# Altium footprint library Switch.PcbLib: 25 footprints (part 2 of 2)
Each footprint in its own frame and in the unit in brackets; x right, y up, seen from the top. Pads: shape width x height; smd on the part's side, far side on the other; paste and mask are expansions set on the pad; w line width, h text height; cw(c..) or ccw(c..) is an arc to the next point about the centre after c.
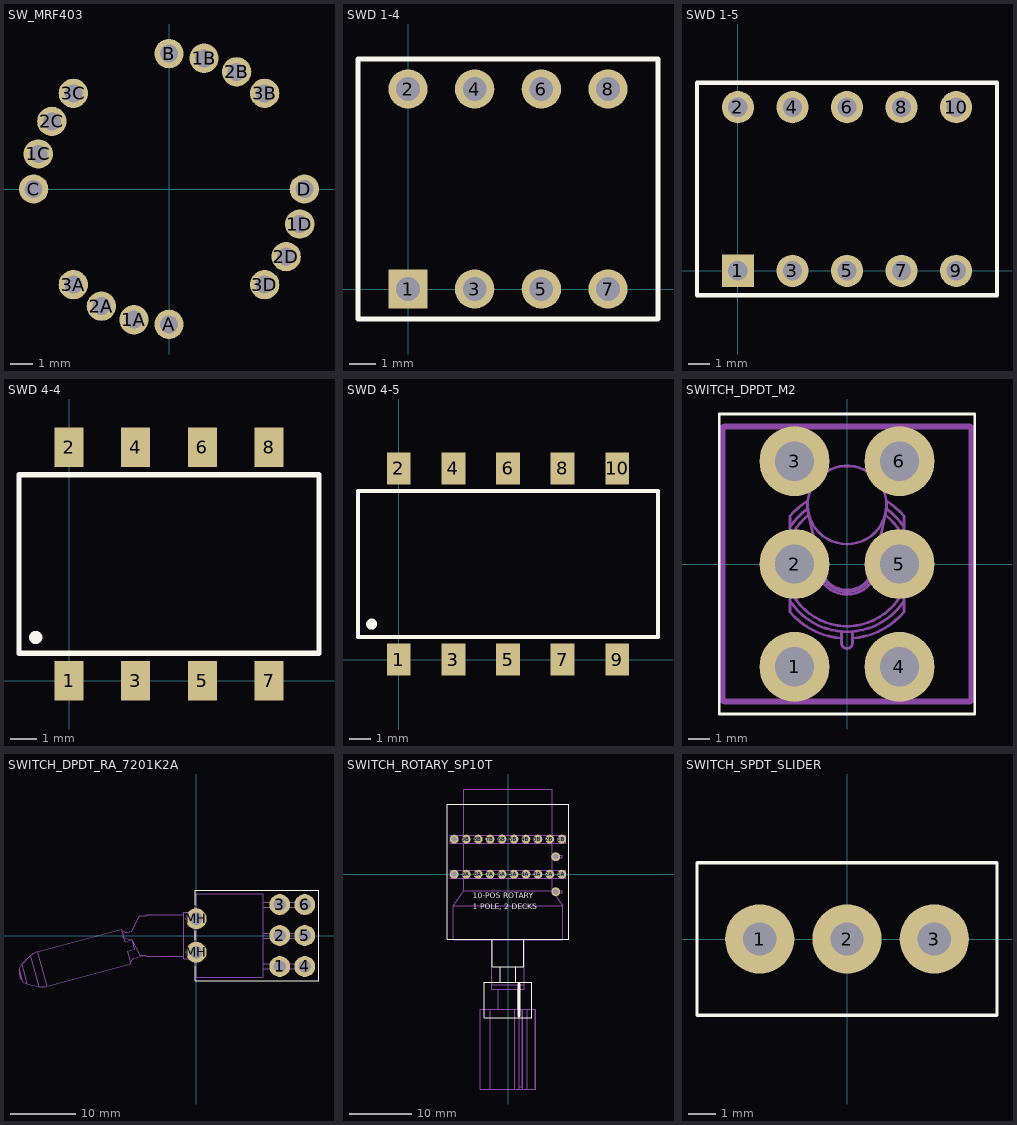
[diagram p1: the footprints below, top view; thin cyan lines are the x and y axes]

## SW_MRF403 [mm]
height 8.2
pads (16):
  round 1.3 hole 0.8: 1A(-1.553,-5.796) 1B(1.553,5.796) 1C(-5.796,1.553) 1D(5.796,-1.553) 2A(-3,-5.196) 2B(3,5.196) 2C(-5.196,3) 2D(5.196,-3) 3A(-4.243,-4.243) 3B(4.243,4.243) 3C(-4.243,4.243) 3D(4.243,-4.243) A(0,-6) B(0,6) C(-6,0) D(6,0)
3D body "MRF403.STEP": height 8.2, standoff -3.51, extent -9.896,-9.896 9.896,9.896

## SWD 1-4 [mm]
height 0.001
pads (8):
  rect 1.5x1.5 hole 0.9: 1(0,0)
  round 1.5 hole 0.9: 2(0,7.62) 3(2.54,0) 4(2.54,7.62) 5(5.08,0) 6(5.08,7.62) 7(7.62,0) 8(7.62,7.62)
Top Overlay:
  lines w0.2: -1.905,-1.14 9.525,-1.14 9.525,8.76 -1.905,8.76 -1.905,-1.14
3D body "SWD1-4.step": height 7, standoff -3.7, extent -1.77,-1.14 9.39,8.76

## SWD 1-5 [mm]
height 0.001
pads (10):
  rect 1.5x1.5 hole 0.9: 1(0,0)
  round 1.5 hole 0.9: 2(0,7.62) 3(2.54,0) 4(2.54,7.62) 5(5.08,0) 6(5.08,7.62) 7(7.62,0) 8(7.62,7.62) 9(10.16,0) 10(10.16,7.62)
Top Overlay:
  lines w0.2: -1.905,-1.14 12.065,-1.14 12.065,8.76 -1.905,8.76 -1.905,-1.14
3D body "SWD1-5.step": height 7, standoff -3.7, extent -1.778,-1.14 11.922,8.76

## SWD 4-4 [mm]
height 0.001
pads (8):
  rect 1.1x1.5 smd: 1(0,0) 2(0,8.9) 3(2.54,0) 4(2.54,8.9) 5(5.08,0) 6(5.08,8.9) 7(7.62,0) 8(7.62,8.9)
Top Overlay:
  circle w0.254: c-1.27,1.651 r0.127
  lines w0.2: -1.905,1.05 9.525,1.05 9.525,7.85 -1.905,7.85 -1.905,1.05
3D body "SWD4-4e.stp": height 4.4, standoff 0, extent -1.74,-0.455 9.36,9.345

## SWD 4-5 [mm]
height 0.001
pads (10):
  rect 1.1x1.5 smd: 1(0,0) 2(0,8.9) 3(2.54,0) 4(2.54,8.9) 5(5.08,0) 6(5.08,8.9) 7(7.62,0) 8(7.62,8.9) 9(10.16,0) 10(10.16,8.9)
Top Overlay:
  circle w0.254: c-1.27,1.651 r0.127
  lines w0.2: -1.905,1.05 -1.905,7.85 12.065,7.85 12.065,1.05 -1.905,1.05
3D body "SWD4-5e.stp": height 4.4, standoff 0, extent -1.74,-0.455 11.9,9.345

## SWITCH_DPDT_M2 [mm] "NKK M2 Series DPDT Switch with 03 pin option"
height 28.448
pads (6):
  round 3.2 hole 1.8: 1(-2.4,-4.7) 2(-2.4,0) 3(-2.4,4.7) 4(2.4,-4.7) 5(2.4,0) 6(2.4,4.7)
Top Overlay:
  lines w0.127: -5.842,-6.858 -5.842,6.858 5.842,6.858 5.842,-6.858 -5.842,-6.858
Mechanical 13:
  lines w0.127: -5.716,-6.313 -5.626,-6.223 ; -5.716,6.313 -5.626,6.223 ; -2.604,-1.681 ccw(c0,0) 2.604,-1.681 ; -2.604,-1.147 ccw(c0,0) 2.604,-1.147 ; -2.604,1.147 cw(c0,0) -1.752,2.241 ; -2.604,1.681 cw(c0,0) -1.801,2.522 ; -1.795,2.892 ccw(c0,0) -2.604,2.192 -2.604,-2.192 ccw(c0,0) -0.254,-3.394 ; -1.766,2.302 -1.191,-0.254 ccw(c0,0.033) 1.191,-0.254 1.766,2.302 ; -1.338,0.401 ccw(c0,0) 1.338,0.401 ; -1.267,0.085 ccw(c0,0) 1.267,0.085 ; -0.254,-3.088 -0.254,-3.607 ccw(c0,-3.607) 0.254,-3.607 0.254,-3.088 ; 0.254,-3.394 ccw(c0,0) 2.604,-2.192 2.604,2.192 ccw(c0,0) 1.795,2.892 ; 1.752,2.241 cw(c0,0) 2.604,1.147 ; 1.801,2.522 cw(c0,0) 2.604,1.681 ; 5.716,-6.313 5.626,-6.223 ; 5.716,6.313 5.626,6.223 ; -5.626,-6.223 5.626,-6.223 ; -5.626,-6.223 -5.626,6.223 ; -5.626,6.223 5.626,6.223 ; 5.626,-6.223 5.626,6.223 ; -5.753,-6.223 ccw(c-5.626,-6.223) -5.626,-6.35 5.626,-6.35 ccw(c5.626,-6.223) 5.753,-6.223 5.753,6.223 ccw(c5.626,6.223) 5.626,6.35 -5.626,6.35 ccw(c-5.626,6.223) -5.753,6.223 -5.753,-6.223 ; -1.808,2.679 cw(c0,2.679) 1.808,2.679 cw(c0,2.715) -1.808,2.679
3D body "Toggle Switch M2T2SG03.STEP": height 29.15, standoff -4.8, extent -5.753,-6.35 5.753,6.35

## SWITCH_DPDT_RA_7201K2A [mil] "DPDT Switch Right-angle PCB mount - C&K 7201K2A"
height 450
pads (8):
  round 125 hole 73: 1(500,-185) 2(500,0) 3(500,185) 4(650,-185) 5(650,0) 6(650,185) MH(0,-100) MH(0,100)
Top Overlay:
  lines w5: -5,-180 -5,-270 735,-270 735,270 -5,270 -5,180 ; -5,-25 -5,25
Mechanical 13:
  lines w1.97: -445.94,27.92 -415.18,18.2 -384.21,26.59 ; -395.27,-159.34 -373.61,-135.45 -309.44,-118.08 ; -75,-125 -298.04,-125 -298.04,-118.08 -338.46,-118.08 -385,-25 ; -75,125 -298.04,125 -298.04,118.08 -338.46,118.08 -385,25 -435,12.5 -435,-12.5 -385,-25 ; -10,-145 0,-145 ; -10,-140 -75,-140 -75,140 -10,140 ; -10,145 0,145 ; 0,-170 -10,-170 -10,170 0,170 ; 400,-200 675,-200 675,-170 400,-170 ; 400,-15 675,-15 675,15 400,15 ; 400,170 675,170 675,200 400,200 ; 610,-200 610,-170 ; 610,-15 610,15 ; 610,170 610,200 ; -1060.2,-211.44 ccw(c-960.2,-211.71) -1046.43,-262.36 ; -1060.2,-211.44 -1060.19,-208.22 ; -1060.2,-211.44 -1046.43,-262.36 ; -1060.19,-208.22 cw(c-1010.19,-208.35) -1044.77,-172.23 ; -1060.19,-208.22 -1044.79,-265.13 ; -1046.43,-262.36 -1044.79,-265.13 ; -1044.79,-265.13 ccw(c-1001.68,-239.81) -1013.33,-288.43 ; -1044.77,-172.24 -992.57,-122.27 ; -1044.77,-172.24 -1013.33,-288.43 ; -1013.33,-288.43 -943.06,-305.26 ; -992.57,-122.27 cw(c-923.42,-194.5) -949.54,-97.97 ; -992.57,-122.27 -943.06,-305.26 ; -949.54,-97.97 -448.55,37.57 -428.44,-36.75 -385,-25 ; -949.54,-97.97 -893.64,-304.55 ; -943.06,-305.26 ccw(c-919.76,-208.02) -893.64,-304.55 ; -893.64,-304.55 -392.66,-169 -412.77,-94.67 -369.33,-82.92 -385,-25 ; 0,-250 400,-250 400,250 0,250 0,-250
3D body "Switch Toggle RA PCB CK 7201K2A.STEP": height 450, standoff -125, extent -1060.14,-308 675,250.01

## SWITCH_ROTARY_SP10T [mil] "Grayhill 71AF style 2-deck single pole 10-position rotary switch"
height 712.6
pads (22):
  round 56 hole 32: 1A(337.5,0) 1B(337.5,220) 2A(262.5,0) 2B(262.5,220) 3A(187.5,0) 3B(187.5,220) 4A(112.5,0) 4B(112.5,220) 5A(37.5,0) 5B(37.5,220) 6A(-37.5,0) 6B(-37.5,220) 7A(-112.5,0) 7B(-112.5,220) 8A(-187.5,0) 8B(-187.5,220) 9A(-262.5,0) 9B(-262.5,220) 10A(-337.5,0) 10B(-337.5,220) C1A(300,-110) C1B(300,110)
Top Overlay:
  lines w5: -100,-410 -100,-580 100,-580 100,-410 ; -50,-580 -50,-680 50,-680 50,-580 ; -380,-410 380,-410 380,440 -380,440 -380,-410 ; -150,-900 150,-900 150,-680 -150,-680 -150,-900
  lines w20: 70,-890 70,-690
  text "10-POS ROTARY" at -220,-150 h35
  text "1 POLE, 2 DECKS" at -220,-220 h35
Mechanical 13:
  lines w5: -343.5,-25 -343.5,25 ; -343.5,195 -343.5,245 ; -278.5,-25 -278.5,-104.17 ; -278.5,25 -278.5,195 ; -278.5,245 -278.5,535 278.5,535 278.5,245 ; -112.06,-1349 -112.06,-849 ; -101.5,-694 101.5,-694 ; -101.5,-412 -101.5,-724 101.5,-724 101.5,-412 ; -62.5,-849 -62.5,-724 ; 43.85,-1349 43.85,-849 ; 62.5,-849 62.5,-724 ; 70,-1349 70,-849 ; 70,-1334 89.14,-1334 89.14,-849 ; 93.78,-1349 93.78,-849 ; 119.93,-1349 119.93,-849 ; 169.67,-1349 169.67,-849 ; 278.5,-102.5 278.5,-25 ; 278.5,25 278.5,102.5 ; 278.5,117.5 278.5,195 ; 287.83,-117.5 343.5,-197 ; 343.5,-25 343.5,25 ; 343.5,195 343.5,245 ; -343.5,-197 343.5,-197 ; -343.5,-197 -278.5,-104.17 ; -343.5,-197 -343.5,-412 343.5,-412 343.5,-197 ; -278.5,-104.17 275.61,-104.17 ; 275.61,-104.17 275.61,-102.5 340,-102.5 340,-117.5 285.04,-117.5 275.61,-104.17 ; -362.5,-25 -362.5,25 362.5,25 362.5,-25 -362.5,-25 ; -362.5,195 -362.5,245 362.5,245 362.5,195 -362.5,195 ; -175,-1349 175,-1349 175,-849 -175,-849 -175,-1349 ; 275.61,102.5 340,102.5 340,117.5 275.61,117.5 275.61,102.5
3D body "Rotary Switch Grayhill 71ADF36-02PAJN.STEP": height 711.5, standoff -156, extent -362.49,-1348.99 362.51,535

## SWITCH_SPDT_SLIDER [mil] "TE Connectivity SLS121PC04 SPDT slider"
height 396
pads (3):
  round 100 hole 48: 1(-126,0) 2(0,0) 3(126,0)
Top Overlay:
  lines w5: -216.54,-110.24 -216.54,110.24 216.54,110.24 216.54,-110.24 -216.54,-110.24
3D body "Slide Switch SLS121PC04.STEP": height 394, standoff -170, extent -216.49,-109.99 216.51,110.01